# Altium schematic symbol library Voltage Regulator.SchLib: 1 symbol
Pins are listed as number, name and electrical type; pins without a type are passive.

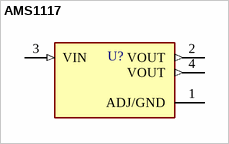
[diagram p0: symbol AMS1117]

## AMS1117
designator U?  (value not drawn)
UNO PLUS Arduino R3 Shield, Xbee Arduino IDE Wheeled Robotics Kit; MP: AMS1117; MF: Seeed Technology; Availability: Unavailable; SnapEDA_Link: https://www.snapeda.com/parts/AMS1117/Seeed%20Technology%20Co.%2C%20Ltd/view-part/184428/?ref=snap; Price: None; Value: *; Package: SOT-223 Seeed Technology
footprint SOT229P700X180-4N
pins: 1 ADJ/GND (power), 2 VOUT (out), 3 VIN (in), 4 VOUT (out)